# Altium footprint library LD2981ABU33TR.PcbLib: 1 footprints
Each footprint in its own frame and in the unit in brackets; x right, y up, seen from the top. Pads: shape width x height; smd on the part's side, far side on the other; paste and mask are expansions set on the pad; w line width, h text height; cw(c..) or ccw(c..) is an arc to the next point about the centre after c.
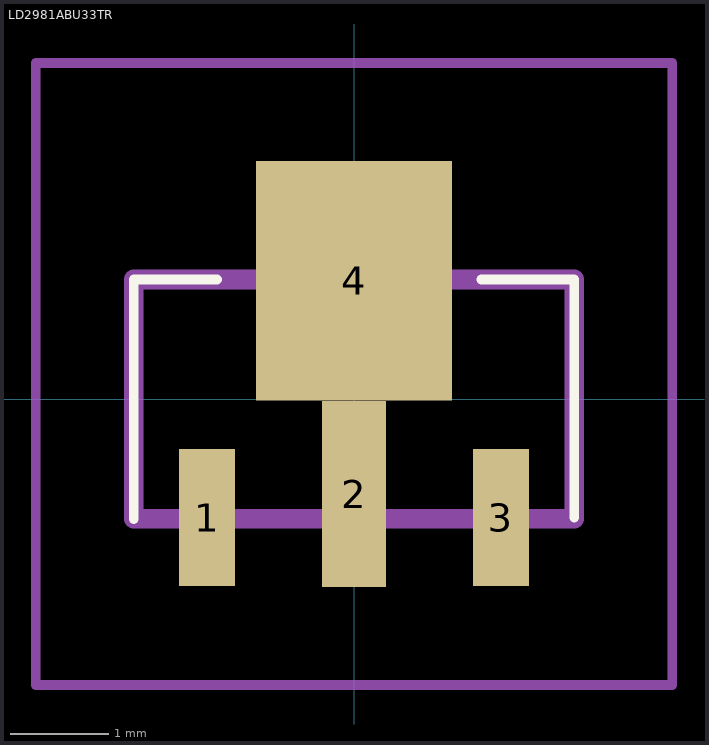
[diagram p0: the footprint, top view; thin cyan lines are the x and y axes]

## LD2981ABU33TR [mm]
pads (4):
  rect 0.57x1.4 smd: 1(-1.5,-1.21) 3(1.5,-1.21)
  rect 0.65x1.9 smd: 2(0,-0.97)
  rect 2x2.45 smd: 4(0,1.21)
Top Overlay:
  lines w0.1: -2.25,-1.223 -2.25,1.223 -1.4,1.223 ; 1.3,1.223 2.25,1.223 2.25,-1.21
Mechanical 15:
  lines w0.2: -2.25,-1.223 2.25,-1.223 2.25,1.223 -2.25,1.223 -2.25,-1.223
Mechanical 20:
  lines w0.1: -3.25,-2.92 3.25,-2.92 3.25,3.435 -3.25,3.435 -3.25,-2.92